# EAGLE library part L298P (library IC & Transistor)
Dual Full-Bridge Driver
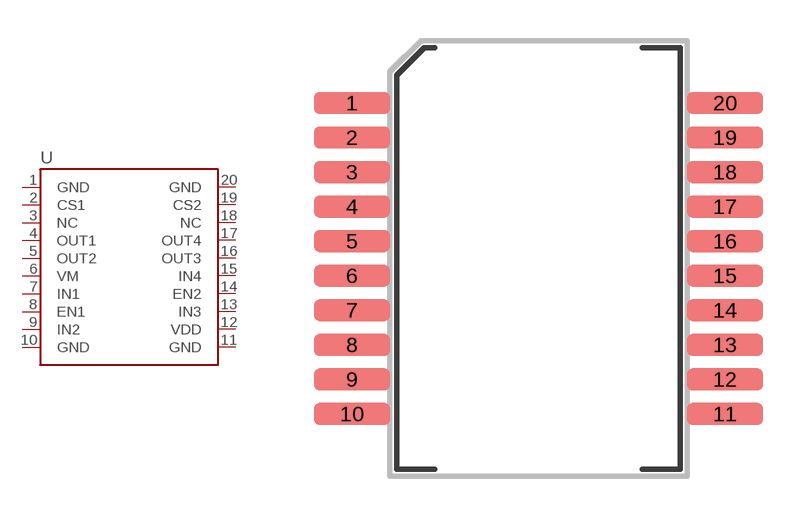
[diagram p8: symbol with the pads of POWERSO20; footprint POWERSO20]

Designator prefix -

## L298P (CYTRON-PC: S-IC-L298P013TR-PSO20; DESC: S Dual Full-Bridge Driver L298P013TR; MF: ST; MPN: 298P013TR)  [POWERSO20]
1  GND
2  CS1
3  NC
4  OUT1
5  OUT2
6  VM
7  IN1
8  EN1
9  IN2
10  GND
11  GND
12  VDD
13  IN3
14  EN2
15  IN4
16  OUT3
17  OUT4
18  NC
19  CS2
20  GND

## Footprint POWERSO20 (pad centres in mm)
SMD L298 Driver Motor Product Code: Size: 17.02 x 15.75 mm *Design your own thermal pad at project file (*.brd).
smd 2.8 x 0.8: 1 -6.858,5.715; 2 -6.858,4.445; 3 -6.858,3.175; 4 -6.858,1.905; 5 -6.858,0.635; 6 -6.858,-0.635; 7 -6.858,-1.905; 8 -6.858,-3.175; 9 -6.858,-4.445; 10 -6.858,-5.715; 11 6.858,-5.715; 12 6.858,-4.445; 13 6.858,-3.175; 14 6.858,-1.905; 15 6.858,-0.635; 16 6.858,0.635; 17 6.858,1.905; 18 6.858,3.175; 19 6.858,4.445; 20 6.858,5.715